# EAGLE library part CON-10 (library ampex)
EDGE CONNECTOR
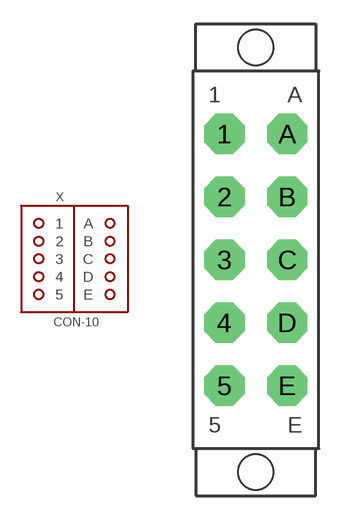
[diagram p2: symbol with the pads of CON-10; footprint CON-10]

Designator prefix X

## CON-10  [CON-10]
1  1  pas
2  2  pas
3  3  pas
4  4  pas
5  5  pas
A  A  pas
B  B  pas
C  C  pas
D  D  pas
E  E  pas

## Footprint CON-10 (pad centres in mm)
EDGE CONNECTOR
drill 1.27 pad 2.54 octagon: 1 1.981,-3.962; 2 1.981,-7.925; 3 1.981,-11.887; 4 1.981,-15.85; 5 1.981,-19.812; A 5.944,-3.962; B 5.944,-7.925; C 5.944,-11.887; D 5.944,-15.85; E 5.944,-19.812